# Altium schematic symbol library IC.SchLib: 53 symbols
Pins are listed as number, name and electrical type; pins without a type are passive.

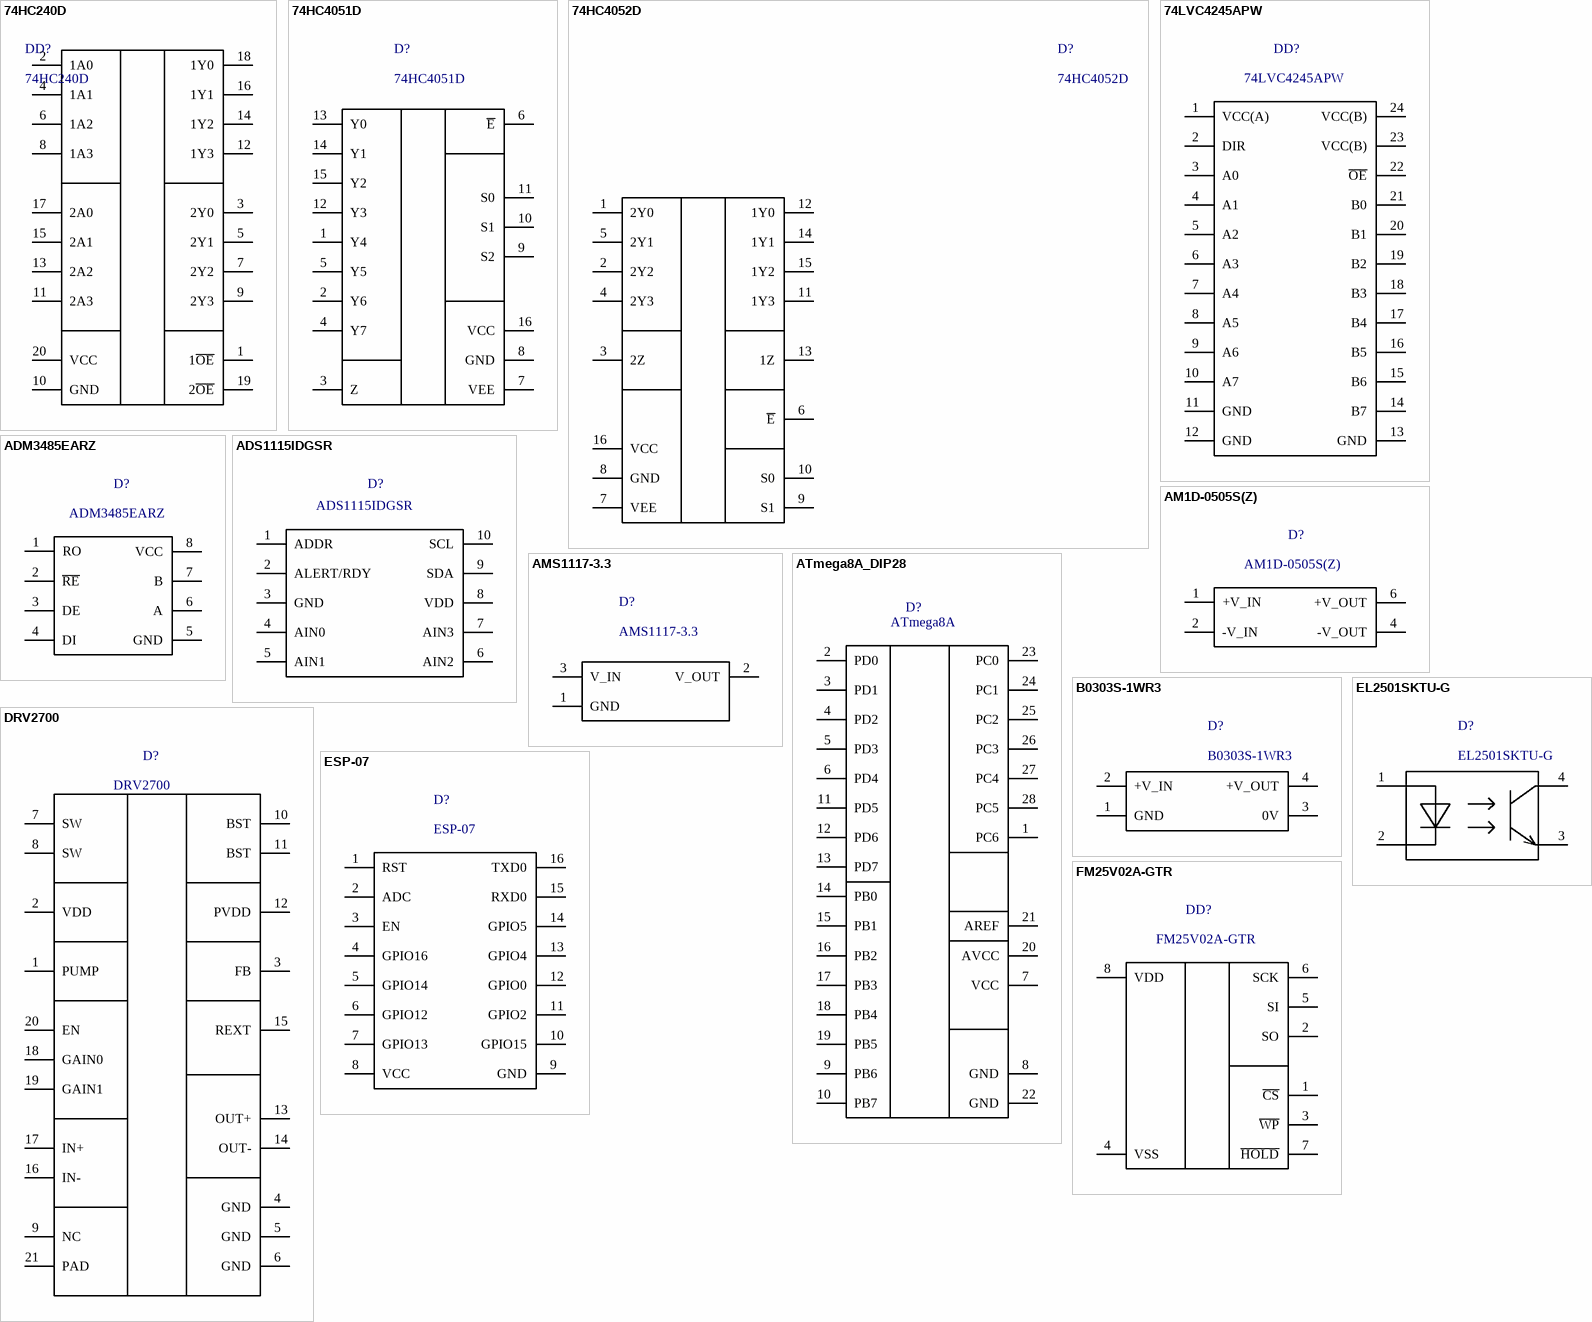
[diagram p0: symbols 74HC240D to FM25V02A-GTR]

## 74HC240D
designator DD?
https://www.chipdip.ru/product/74hc240d
footprint SOIC127P1030X250-20N
pins: 1 1~{OE}, 2 1A0, 3 2Y0, 4 1A1, 5 2Y1, 6 1A2, 7 2Y2, 8 1A3, 9 2Y3, 10 GND, 11 2A3, 12 1Y3, 13 2A2, 14 1Y2, 15 2A1, 16 1Y1, 17 2A0, 18 1Y0, 19 2~{OE}, 20 VCC

## 74HC4051D
designator D?
https://www.chipdip.ru/product/74hc4051d
footprint SO-16 (SOIC, 16-Leads, Body 9,90x3,90mm, Pitch 1,27mm, IPC Medium Density)
pins: 1 Y4, 2 Y6, 3 Z, 4 Y7, 5 Y5, 6 ~{E}, 7 VEE, 8 GND, 9 S2, 10 S1, 11 S0, 12 Y3, 13 Y0, 14 Y1, 15 Y2, 16 VCC

## 74HC4052D
designator D?
https://www.chipdip.ru/product/74hc4052d; spec: 74HC4052D,653, Двоичный четырехканальный мультиплексор, [SO-16]
footprint SO-16 (SOIC, 16-Leads, Body 9,90x3,90mm, Pitch 1,27mm, IPC Medium Density)
pins: 1 2Y0, 2 2Y2, 3 2Z, 4 2Y3, 5 2Y1, 6 ~{E}, 7 VEE, 8 GND, 9 S1, 10 S0, 11 1Y3, 12 1Y0, 13 1Z, 14 1Y1, 15 1Y2, 16 VCC

## 74LVC4245APW
designator DD?
footprint SOP65P640X110-24N
pins: 1 VCC(A), 2 DIR, 3 A0, 4 A1, 5 A2, 6 A3, 7 A4, 8 A5, 9 A6, 10 A7, 11 GND, 12 GND, 13 GND, 14 B7, 15 B6, 16 B5, 17 B4, 18 B3, 19 B2, 20 B1, 21 B0, 22 ~{OE}, 23 VCC(B), 24 VCC(B)

## ADM3485EARZ
designator D?
https://www.chipdip.ru/product/adm3485earz
footprint SO-8
pins: 1 RO, 2 ~{RE}, 3 DE, 4 DI, 5 GND, 6 A, 7 B, 8 VCC

## ADS1115IDGSR
designator D?
https://www.chipdip.ru/product/ads1115idgst; spec: ADS1115IDGSR, 16-бит АЦП, I2C, с встроенными MUX, PGA, Reference, Oscillator и Programmable Comparator [VSSOP-10]
footprint SOP50P490X110-10N
pins: 1 ADDR, 2 ALERT/RDY, 3 GND, 4 AIN0, 5 AIN1, 6 AIN2, 7 AIN3, 8 VDD, 9 SDA, 10 SCL

## AM1D-0505S(Z)
designator D?
https://www.chipdip.ru/product/am1d-0505sz
footprint AM1D0505SZ
pins: 1 +V_IN, 2 -V_IN, 4 -V_OUT, 6 +V_OUT

## AMS1117-3.3
designator D?
https://www.chipdip.ru/product/ams1117-3.3-umw; spec: AMS1117-3.3, Линейный регулятор с малым падением напряжения, 1А, 3.3В [SOT-223]
footprint SOT223
pins: 1 GND, 2 V_OUT, 3 V_IN

## ATmega8A_DIP28
designator D?, comment ATmega8A
https://www.chipdip.ru/product/atmega8a-pu; spec: ATmega8A-PU, Микроконтроллер 8-Бит, AVR, 16МГц, 8КБ Flash [DIP-28]
footprint DIP794W53P254L3467H457Q28N
pins: 1 PC6, 2 PD0, 3 PD1, 4 PD2, 5 PD3, 6 PD4, 7 VCC, 8 GND, 9 PB6, 10 PB7, 11 PD5, 12 PD6, 13 PD7, 14 PB0, 15 PB1, 16 PB2, 17 PB3, 18 PB4, 19 PB5, 20 AVCC, 21 AREF, 22 GND, 23 PC0, 24 PC1, 25 PC2, 26 PC3, 27 PC4, 28 PC5

## B0303S-1WR3
designator D?
https://www.chipdip.ru/product0/8011142707
footprint B0303S-1WR3
pins: 1 GND, 2 +V_IN, 3 0V, 4 +V_OUT

## DRV2700
designator D?
DRV2700 Микросхема высоковольтный драйвер, операционный усилитель [QFN20]; link: https://www.chipdip.ru/product0/8004998179
footprint QFN50P400X400X100-21N-D
pins: 1 PUMP, 2 VDD, 3 FB, 4 GND, 5 GND, 6 GND, 7 SW, 8 SW, 9 NC, 10 BST, 11 BST, 12 PVDD, 13 OUT+, 14 OUT-, 15 REXT, 16 IN-, 17 IN+, 18 GAIN0, 19 GAIN1, 20 EN, 21 PAD

## EL2501SKTU-G
designator D?
https://www.chipdip.ru/product0/8010391243
footprint SOP4 (SOP, 4-Leads, Body 4,00x3,79mm, Pitch 2,54mm, IPC High Density)
pins: 1, 2, 3, 4

## ESP-07
designator D?
https://www.chipdip.ru/product/esp-07?utm_source=direct&utm_medium=cpc&position_type=premium%7Ck50id%7C010000002651869_2651869%7Ccid%7C60323483%7Cgid%7C4964185843%7Caid%7C12395873219%7Csrc%7Csearch_none&utm_campaign=Y_dinamicheskaya&utm_content=text9_ya&utm_term=&yclid=16044866700604080127; spec: ESP-07, Встраиваемый Wi-Fi модуль на базе чипа ESP8266
footprint ESP8266ESP07
pins: 1 RST, 2 ADC, 3 EN, 4 GPIO16, 5 GPIO14, 6 GPIO12, 7 GPIO13, 8 VCC, 9 GND, 10 GPIO15, 11 GPIO2, 12 GPIO0, 13 GPIO4, 14 GPIO5, 15 RXD0, 16 TXD0

## FM25V02A-GTR
designator DD?
https://www.platan.ru/cgi-bin/qwery.pl/id=2015799195; Type: Микросхема памяти F-RAM 256 kb; Package: [SO-8]
footprint SOIC127P602X173-8N
pins: 1 ~{CS}, 2 SO, 3 ~{WP}, 4 VSS, 5 SI, 6 SCK, 7 ~{HOLD}, 8 VDD

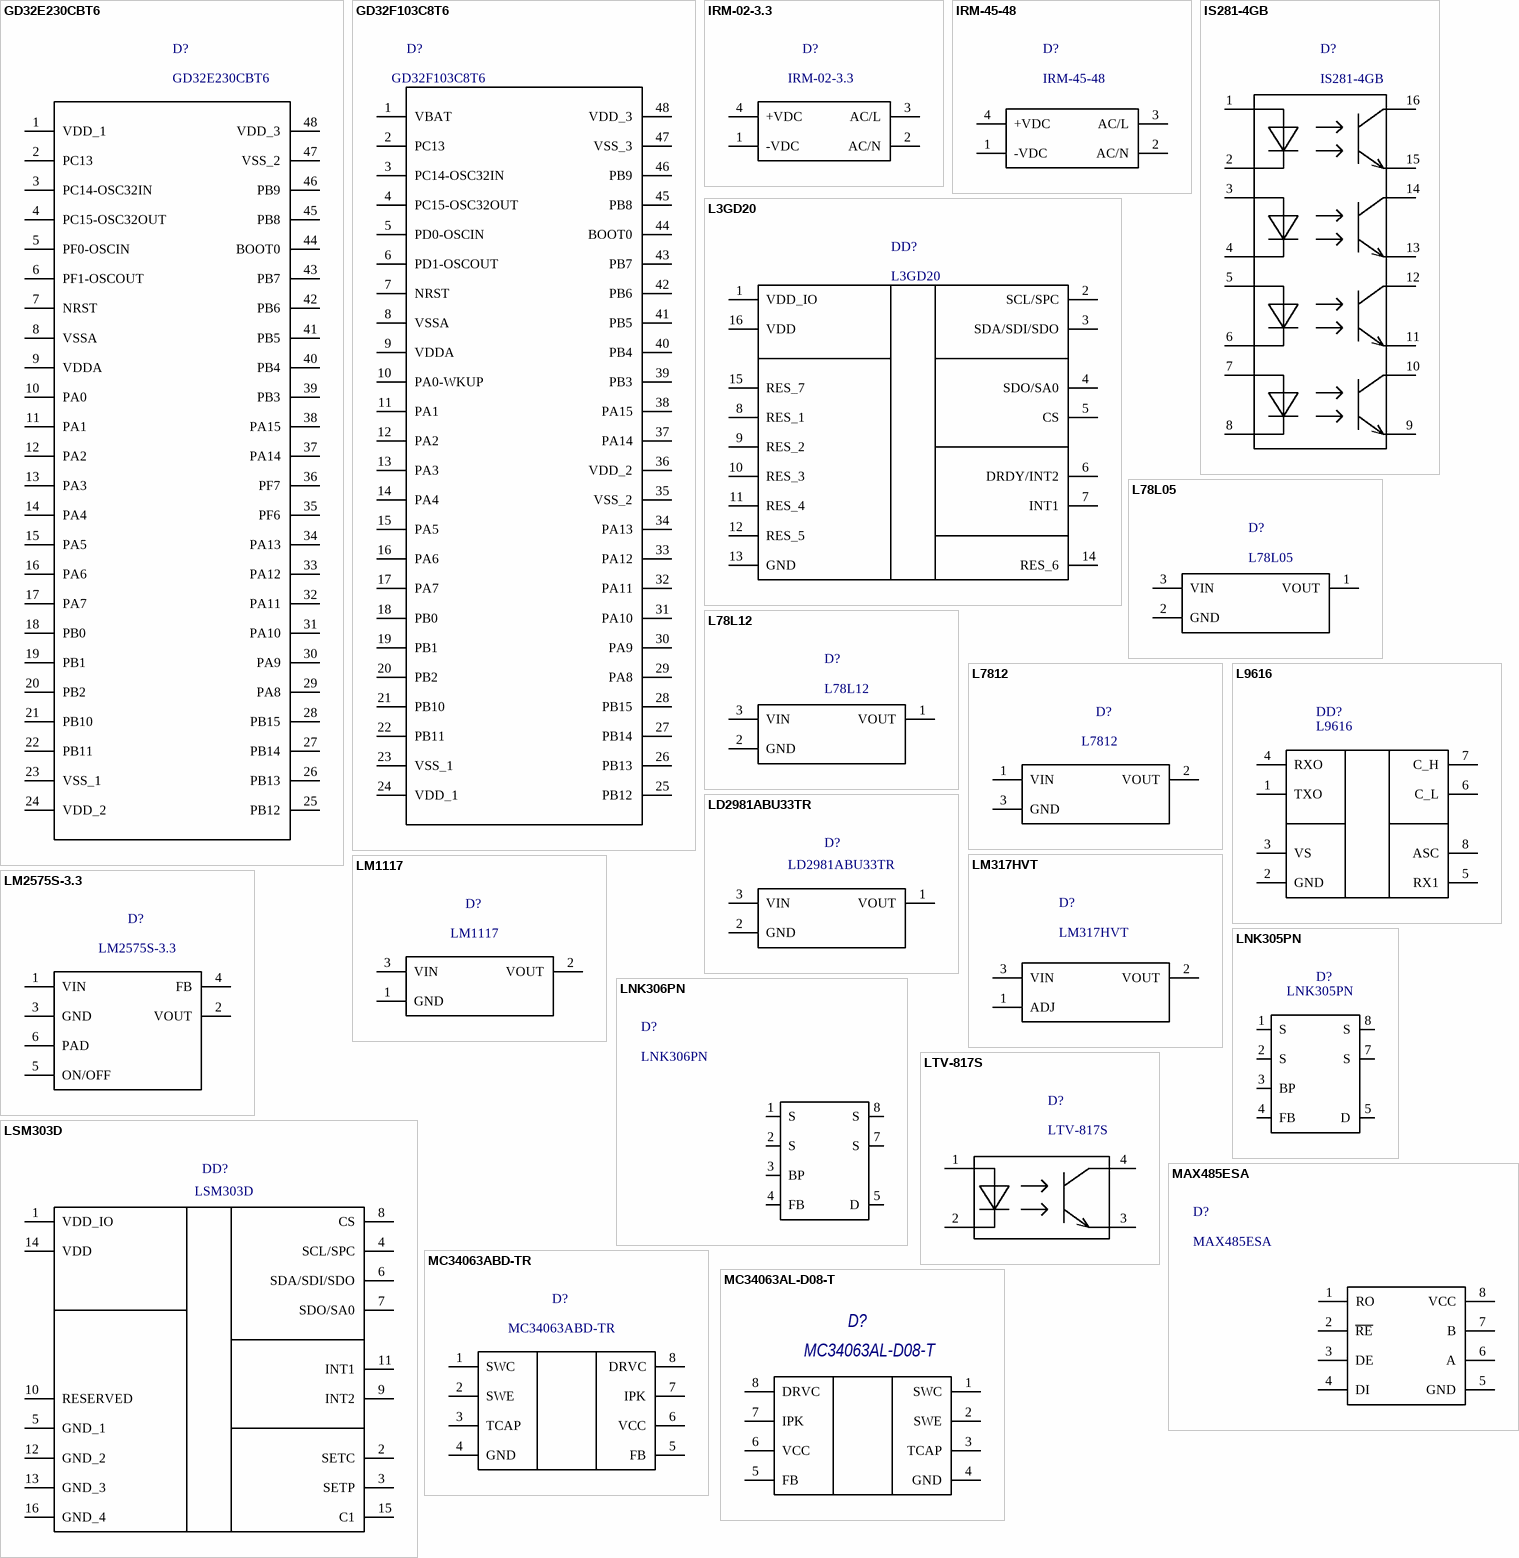
[diagram p1: symbols GD32E230CBT6 to MC34063AL-D08-T]

## GD32E230CBT6
designator D?
https://www.chipdip.ru/product/gd32e230c8t6; Type: микроконтроллер; Package: [LQFP-48]
footprint QFP50P900X900X160-48N
pins: 1 VDD_1, 2 PC13, 3 PC14-OSC32IN, 4 PC15-OSC32OUT, 5 PF0-OSCIN, 6 PF1-OSCOUT, 7 NRST, 8 VSSA, 9 VDDA, 10 PA0, 11 PA1, 12 PA2, 13 PA3, 14 PA4, 15 PA5, 16 PA6, 17 PA7, 18 PB0, 19 PB1, 20 PB2, 21 PB10, 22 PB11, 23 VSS_1, 24 VDD_2, 25 PB12, 26 PB13, 27 PB14, 28 PB15, 29 PA8, 30 PA9, 31 PA10, 32 PA11, 33 PA12, 34 PA13, 35 PF6, 36 PF7, 37 PA14, 38 PA15, 39 PB3, 40 PB4, 41 PB5, 42 PB6, 43 PB7, 44 BOOT0, 45 PB8, 46 PB9, 47 VSS_2, 48 VDD_3

## GD32F103C8T6
designator D?
https://www.chipdip.ru/product/gd32f103c8t6-gigadevice
footprint QFP50P900X900X160-48N
pins: 1 VBAT, 2 PC13, 3 PC14-OSC32IN, 4 PC15-OSC32OUT, 5 PD0-OSCIN, 6 PD1-OSCOUT, 7 NRST, 8 VSSA, 9 VDDA, 10 PA0-WKUP, 11 PA1, 12 PA2, 13 PA3, 14 PA4, 15 PA5, 16 PA6, 17 PA7, 18 PB0, 19 PB1, 20 PB2, 21 PB10, 22 PB11, 23 VSS_1, 24 VDD_1, 25 PB12, 26 PB13, 27 PB14, 28 PB15, 29 PA8, 30 PA9, 31 PA10, 32 PA11, 33 PA12, 34 PA13, 35 VSS_2, 36 VDD_2, 37 PA14, 38 PA15, 39 PB3, 40 PB4, 41 PB5, 42 PB6, 43 PB7, 44 BOOT0, 45 PB8, 46 PB9, 47 VSS_3, 48 VDD_3

## IRM-02-3.3
designator D?
https://www.chipdip.ru/product/irm-02-3.3-mean-well; spec: RM-02-3.3, AC/DC преобразователь, 3.3В,0.6А,2Вт
footprint IRM-02
pins: 1 -VDC, 2 AC/N, 3 AC/L, 4 +VDC

## IRM-45-48
designator D?
IRM-45-48, AC/DC преобразователь; link: https://www.chipdip.ru/product0/8001536163
pins: 1 -VDC, 2 AC/N, 3 AC/L, 4 +VDC

## IS281-4GB
designator D?
https://www.chipdip.ru/product/is281-4gb
footprint SO-16 (SOIC, 16-Leads, Body 9,90x3,90mm, Pitch 1,27mm, IPC Medium Density)
pins: 1, 2, 3, 4, 5, 6, 7, 8, 9, 10, 11, 12, 13, 14, 15, 16

## L3GD20
designator DD?
https://3d-diy.ru/product/3-kh-osevoy-giroskop-l3gd20-gy-50; Type: Цифровой гироскоп; Package: [LGA-16]
footprint QFN65P400X400X100-16N
pins: 1 VDD_IO, 2 SCL/SPC, 3 SDA/SDI/SDO, 4 SDO/SA0, 5 CS, 6 DRDY/INT2, 7 INT1, 8 RES_1, 9 RES_2, 10 RES_3, 11 RES_4, 12 RES_5, 13 GND, 14 RES_6, 15 RES_7, 16 VDD

## L78L05
designator D?
https://www.chipdip.ru/product/l78l05abutr; spec: L78L05ABUTR, Cтабилизатор напряжения (+5В; 0.1А), 4%, (-40...+125C), [SOT-89]
footprint sot89 (SOT89, 3-Leads, Body 4,50x2,45mm, Pitch 1,50mm, Lead Span 4,1mm, IPC High Density)
pins: 1 VOUT, 2 GND, 3 VIN

## L78L12
designator D?
https://www.chipdip.ru/product/l78l12abutr-2r; spec: L78L12ABUTR, Стабилизатор напряжения +12В 0.1А [SOT-89]
footprint sot89 (SOT89, 3-Leads, Body 4,50x2,45mm, Pitch 1,50mm, Lead Span 4,1mm, IPC High Density)
pins: 1 VOUT, 2 GND, 3 VIN

## L7812
designator D?
L7812ABD2T-TR, Стабилизатор напряжения +12В 1.5А 2%, (-40...+125C), [D2-PAK]; link: https://www.chipdip.ru/product/l7812abd2t
footprint D2PACK
pins: 1 VIN, 2 VOUT, 3 GND

## L9616
designator DD?
https://www.chipdip.ru/product/l9616-stm
footprint SOIC127P600X175-8N
pins: 1 TXO, 2 GND, 3 VS, 4 RXO, 5 RX1, 6 C_L, 7 C_H, 8 ASC

## LD2981ABU33TR
designator D?
https://www.chipdip.ru/product/ld2981abu33tr
footprint SOT89 (SOT89, 3-Leads, Body 4,50x2,45mm, Pitch 1,50mm, Lead Span 4,1mm, IPC High Density)
pins: 1 VOUT, 2 GND, 3 VIN

## LM317HVT
designator D?
LM317HVT/NOPB, 3-х выводной регулятор напряжения с установкой выходного напряжения 1.25В…57В, 1.5А, [TO-220]; link: https://www.chipdip.ru/product/lm317hvt-nopb
pins: 1 ADJ, 2 VOUT, 3 VIN

## LM1117
designator D?
https://www.chipdip.ru/product/lm1117gs-5.0; spec: LM1117GS-5.0, Линейный регулятор с низким падением напряжения, +5 В, 1А [SOT-223] (=LM1117IMPX-5.0)
footprint SOT223
pins: 1 GND, 2 VOUT, 3 VIN

## LM2575S-3.3
designator D?
https://www.chipdip.ru/product/lm2575s-3.3-umw
footprint TO-263-5
pins: 1 VIN, 2 VOUT, 3 GND, 4 FB, 5 ON/OFF, 6 PAD

## LNK305PN
designator D?
https://www.chipdip.ru/product/lnk305pn; spec: LNK305PN, Импульсный регулятор напряжения [DIP-8]
footprint DIP-8 (NO 6)
pins: 1 S, 2 S, 3 BP, 4 FB, 5 D, 7 S, 8 S

## LNK306PN
designator D?
spec: LNK306PN, ШИМ-контроллер Off-line switcher, 12мВт [DIP-8]
footprint DIP-8 (NO 6)
pins: 1 S, 2 S, 3 BP, 4 FB, 5 D, 7 S, 8 S

## LSM303D
designator DD?
footprint PQFN50P300X300X100-16N
pins: 1 VDD_IO (power), 2 SETC, 3 SETP, 4 SCL/SPC, 5 GND_1 (power), 6 SDA/SDI/SDO, 7 SDO/SA0, 8 CS, 9 INT2, 10 RESERVED, 11 INT1, 12 GND_2 (power), 13 GND_3 (power), 14 VDD (power), 15 C1, 16 GND_4 (power)

## LTV-817S
designator D?
LTV-817S-TA1-C, Оптопара транзисторная, (=PC817), [SMD-4]; link: https://www.chipdip.ru/product/pc817-ltv817s
footprint SOP-4
pins: 1, 2, 3, 4

## MAX485ESA
designator D?
https://www.chipdip.ru/product/max485esa-umw
footprint SOIC127P600X175-8N
pins: 1 RO, 2 ~{RE}, 3 DE, 4 DI, 5 GND, 6 A, 7 B, 8 VCC

## MC34063ABD-TR
designator D?
https://www.chipdip.ru/product/mc34063abd-tr
footprint SO-8
pins: 1 SWC, 2 SWE, 3 TCAP, 4 GND, 5 FB, 6 VCC, 7 IPK, 8 DRVC

## MC34063AL-D08-T
designator D?
https://www.chipdip.ru/product0/8407325065
footprint DIP794W56P254L959H533Q8N
pins: 1 SWC, 2 SWE, 3 TCAP, 4 GND, 5 FB, 6 VCC, 7 IPK, 8 DRVC

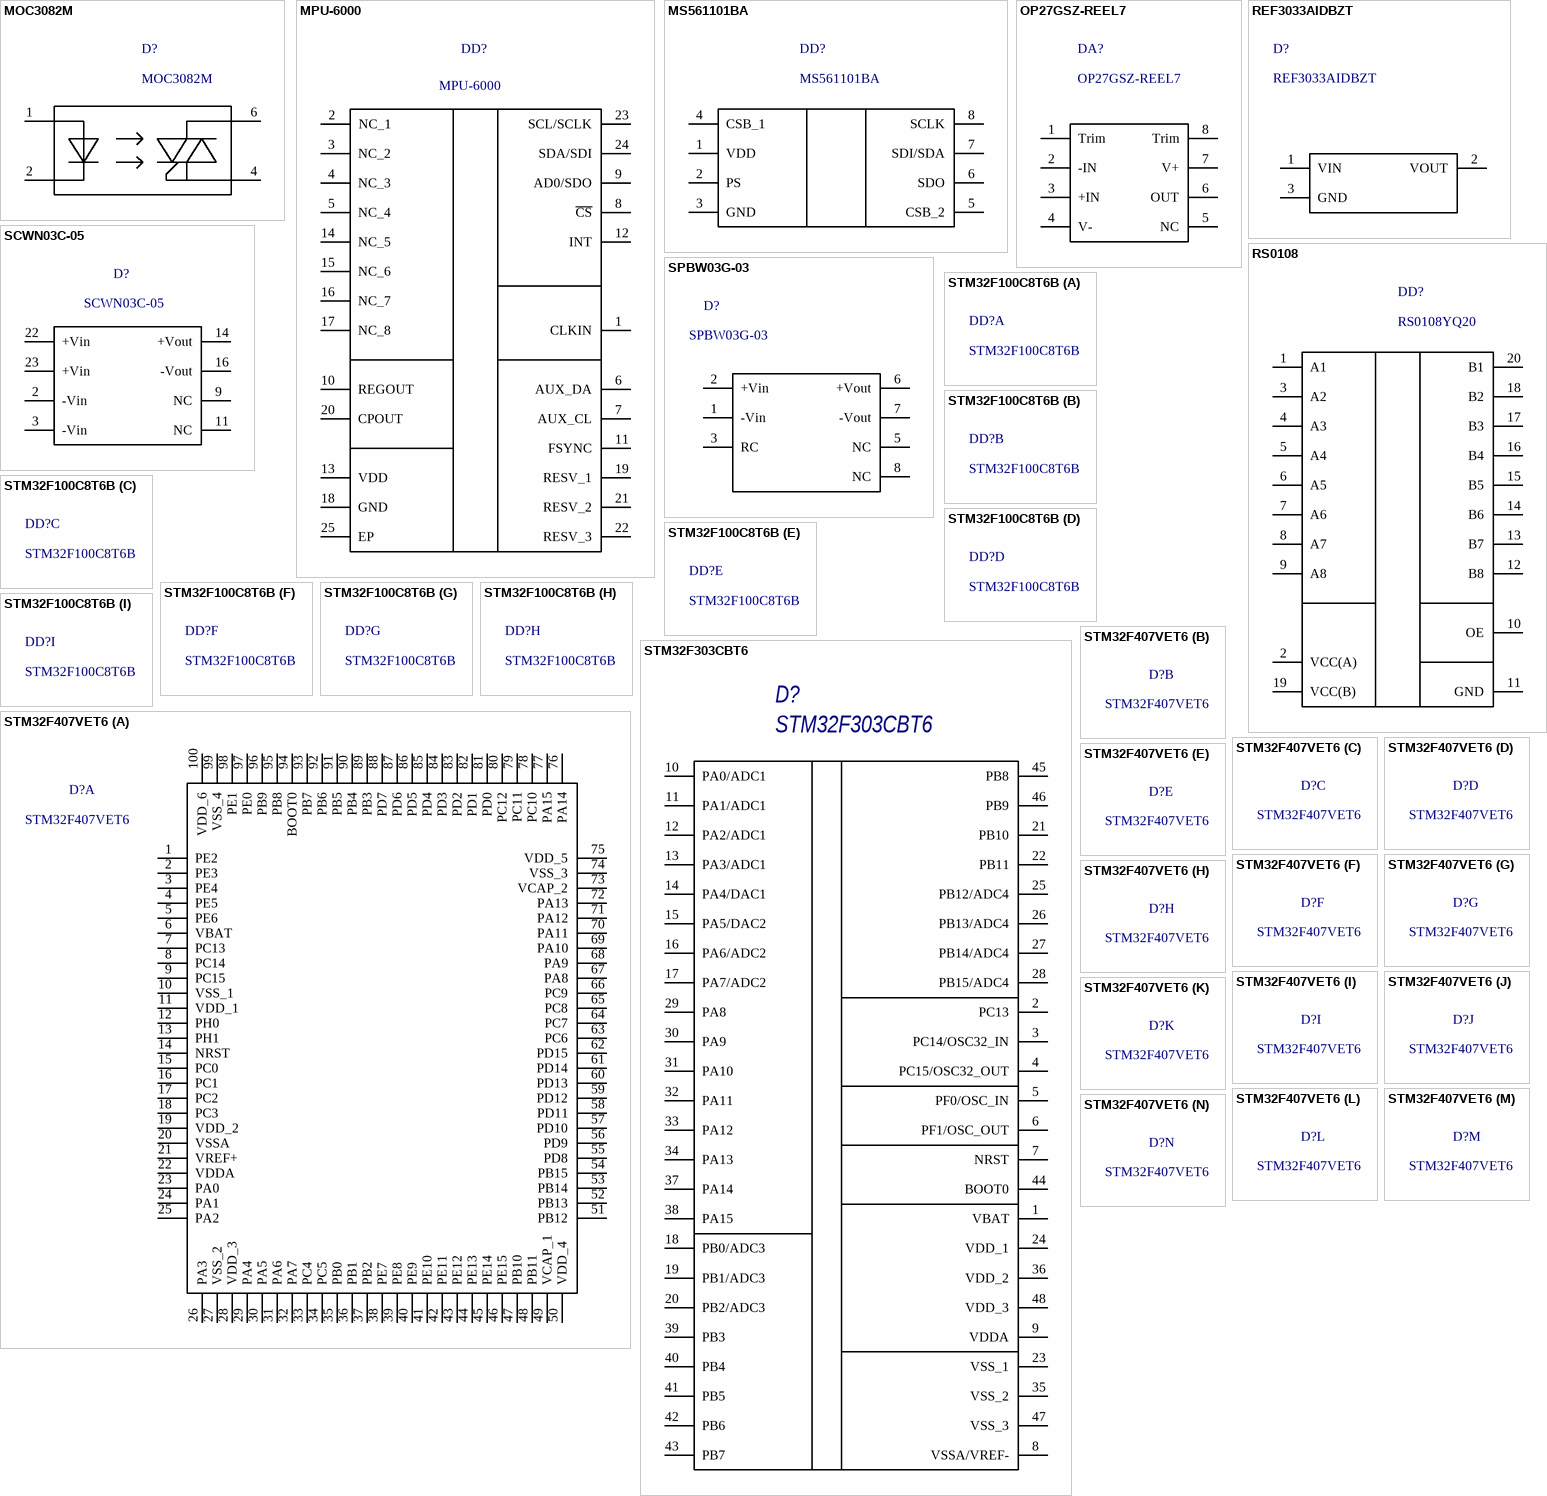
[diagram p2: symbols MOC3082M to STM32F407VET6]

## MOC3082M
designator D?
https://www.chipdip.ru/product0/8010390693
footprint DIP6
pins: 1, 2, 4, 6

## MPU-6000
designator DD?
footprint QFN50P400X400X95-25N
pins: 1 CLKIN, 2 NC_1, 3 NC_2, 4 NC_3, 5 NC_4, 6 AUX_DA, 7 AUX_CL, 8 ~{CS}, 9 AD0/SDO, 10 REGOUT, 11 FSYNC, 12 INT, 13 VDD, 14 NC_5, 15 NC_6, 16 NC_7, 17 NC_8, 18 GND, 19 RESV_1, 20 CPOUT, 21 RESV_2, 22 RESV_3, 23 SCL/SCLK, 24 SDA/SDI, 25 EP

## MS561101BA
designator DD?
footprint MS561101BA03-50
pins: 1 VDD, 2 PS, 3 GND, 4 CSB_1, 5 CSB_2, 6 SDO, 7 SDI/SDA, 8 SCLK

## OP27GSZ-REEL7
designator DA?
OP27GSZ-REEL7, Малошумящий прецизионный операционный усилитель, 8МГц [SO-8]; link: https://www.chipdip.ru/product/op27gs
footprint SO-8
pins: 1 Trim, 2 -IN, 3 +IN, 4 V-, 5 NC, 6 OUT, 7 V+, 8 Trim

## REF3033AIDBZT
designator D?
REF3033AIDBZT, Источник опорного напряжения, 3.3V LP [SOT-23-3]; link: https://www.chipdip.ru/product/ref3033aidbzt-3
footprint SOT23-3 (SOT23, 3 pin)
pins: 1 VIN, 2 VOUT, 3 GND

## RS0108
designator DD?, comment RS0108YQ20
https://www.chipdip.ru/product0/8011065167; Type: Преобразователь логических уровней; Package: [TSSOP-20]
footprint TSSOP20 (TSSOP, 20-Leads, Body 6,50x4,40mm, Pitch 0,65mm, IPC Medium Density)
pins: 1 A1, 2 VCC(A), 3 A2, 4 A3, 5 A4, 6 A5, 7 A6, 8 A7, 9 A8, 10 OE, 11 GND, 12 B8, 13 B7, 14 B6, 15 B5, 16 B4, 17 B3, 18 B2, 19 VCC(B), 20 B1

## SCWN03C-05
designator D?
SCWN03C-05, DC/DC преобразователь; link: https://www.chipdip.ru/product0/8021354196
pins: 2 -Vin, 3 -Vin, 9 NC, 11 NC, 14 +Vout, 16 -Vout, 22 +Vin, 23 +Vin

## SPBW03G-03
designator D?
SPBW03G-03, DC/DC преобразователь; link: https://www.chipdip.ru/product0/8001615219
pins: 1 -Vin, 2 +Vin, 3 RC, 5 NC, 6 +Vout, 7 -Vout, 8 NC

## STM32F100C8T6B
designator DD?
footprint QFP50P900X900X160-48N
1 alternate drawing of the same symbol

## STM32F303CBT6
designator D?
STM32F303CBT6, Микроконтроллер ARM Cortex-M4, 32-бит, 72МГц, 128K Flash, 32К RAM, 37 I/O, USB [LQFP-48]; ComponentLink1Description: link; ComponentLink1URL: https://www.chipdip.ru/product/stm32f303cbt6
footprint LQFP48
pins: 1 VBAT, 2 PC13, 3 PC14/OSC32_IN, 4 PC15/OSC32_OUT, 5 PF0/OSC_IN, 6 PF1/OSC_OUT, 7 NRST, 8 VSSA/VREF-, 9 VDDA, 10 PA0/ADC1, 11 PA1/ADC1, 12 PA2/ADC1, 13 PA3/ADC1, 14 PA4/DAC1, 15 PA5/DAC2, 16 PA6/ADC2, 17 PA7/ADC2, 18 PB0/ADC3, 19 PB1/ADC3, 20 PB2/ADC3, 21 PB10, 22 PB11, 23 VSS_1, 24 VDD_1, 25 PB12/ADC4, 26 PB13/ADC4, 27 PB14/ADC4, 28 PB15/ADC4, 29 PA8, 30 PA9, 31 PA10, 32 PA11, 33 PA12, 34 PA13, 35 VSS_2, 36 VDD_2, 37 PA14, 38 PA15, 39 PB3, 40 PB4, 41 PB5, 42 PB6, 43 PB7, 44 BOOT0, 45 PB8, 46 PB9, 47 VSS_3, 48 VDD_3

## STM32F407VET6
designator D?
Type: *; Package: *
footprint QFP50P1600X1600X160-100N
part A pins: 1 PE2, 2 PE3, 3 PE4, 4 PE5, 5 PE6, 6 VBAT, 7 PC13, 8 PC14, 9 PC15, 10 VSS_1, 11 VDD_1, 12 PH0, 13 PH1, 14 NRST, 15 PC0, 16 PC1, 17 PC2, 18 PC3, 19 VDD_2, 20 VSSA, 21 VREF+, 22 VDDA, 23 PA0, 24 PA1, 25 PA2, 26 PA3, 27 VSS_2, 28 VDD_3, 29 PA4, 30 PA5, 31 PA6, 32 PA7, 33 PC4, 34 PC5, 35 PB0, 36 PB1, 37 PB2, 38 PE7, 39 PE8, 40 PE9, 41 PE10, 42 PE11, 43 PE12, 44 PE13, 45 PE14, 46 PE15, 47 PB10, 48 PB11, 49 VCAP_1, 50 VDD_4, 51 PB12, 52 PB13, 53 PB14, 54 PB15, 55 PD8, 56 PD9, 57 PD10, 58 PD11, 59 PD12, 60 PD13, 61 PD14, 62 PD15, 63 PC6, 64 PC7, 65 PC8, 66 PC9, 67 PA8, 68 PA9, 69 PA10, 70 PA11, 71 PA12, 72 PA13, 73 VCAP_2, 74 VSS_3, 75 VDD_5, 76 PA14, 77 PA15, 78 PC10, 79 PC11, 80 PC12, 81 PD0, 82 PD1, 83 PD2, 84 PD3, 85 PD4, 86 PD5, 87 PD6, 88 PD7, 89 PB3, 90 PB4, 91 PB5, 92 PB6, 93 PB7, 94 BOOT0, 95 PB8, 96 PB9, 97 PE0, 98 PE1, 99 VSS_4, 100 VDD_6
1 alternate drawing of the same symbol

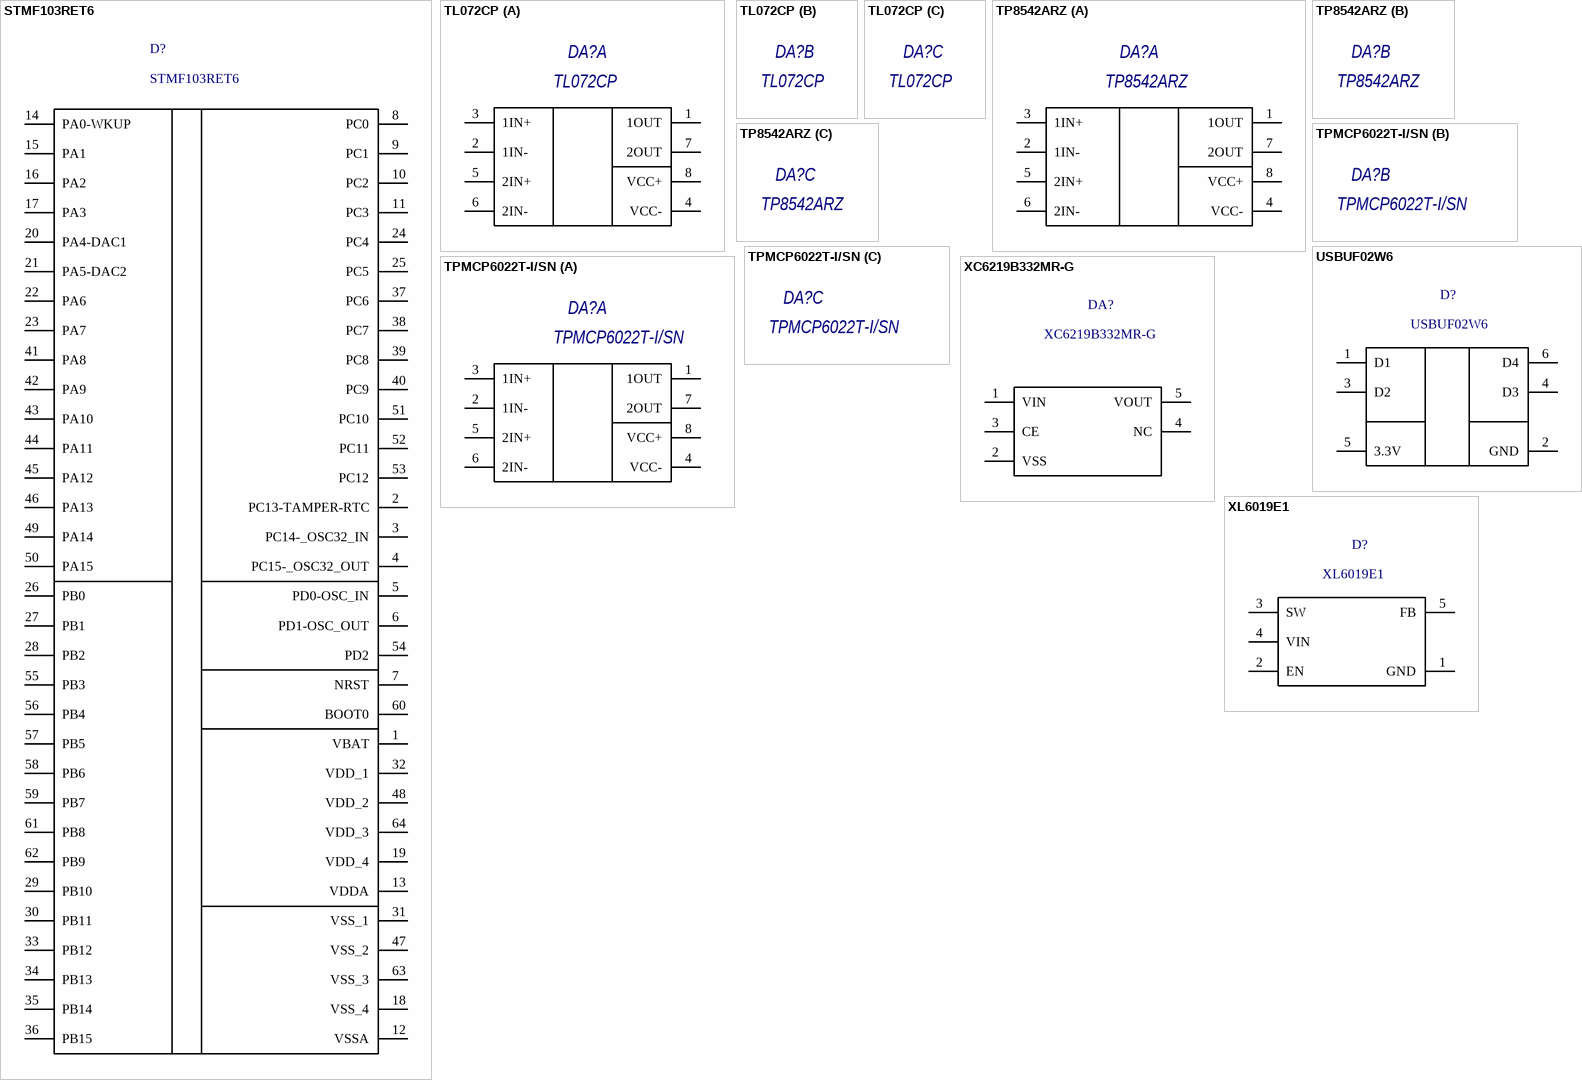
[diagram p3: symbols STMF103RET6 to XL6019E1]

## STMF103RET6
designator D?
STM32F103RET6, Микроконтроллер ARM Cortex-M3, 32-бит, 72МГц, 512K Flash, 64К RAM, 51 I/O, USB [LQFP-64]; link: https://www.chipdip.ru/product/stm32f103ret6-3
footprint QFP64_2
pins: 1 VBAT, 2 PC13-TAMPER-RTC, 3 PC14-_OSC32_IN, 4 PC15-_OSC32_OUT, 5 PD0-OSC_IN, 6 PD1-OSC_OUT, 7 NRST, 8 PC0, 9 PC1, 10 PC2, 11 PC3, 12 VSSA, 13 VDDA, 14 PA0-WKUP, 15 PA1, 16 PA2, 17 PA3, 18 VSS_4, 19 VDD_4, 20 PA4-DAC1, 21 PA5-DAC2, 22 PA6, 23 PA7, 24 PC4, 25 PC5, 26 PB0, 27 PB1, 28 PB2, 29 PB10, 30 PB11, 31 VSS_1, 32 VDD_1, 33 PB12, 34 PB13, 35 PB14, 36 PB15, 37 PC6, 38 PC7, 39 PC8, 40 PC9, 41 PA8, 42 PA9, 43 PA10, 44 PA11, 45 PA12, 46 PA13, 47 VSS_2, 48 VDD_2, 49 PA14, 50 PA15, 51 PC10, 52 PC11, 53 PC12, 54 PD2, 55 PB3, 56 PB4, 57 PB5, 58 PB6, 59 PB7, 60 BOOT0, 61 PB8, 62 PB9, 63 VSS_3, 64 VDD_3

## TL072CP
designator DA?
footprint DIP794W56P254L959H533Q8N
part A pins: 1 1OUT, 2 1IN-, 3 1IN+, 4 VCC-, 5 2IN+, 6 2IN-, 7 2OUT, 8 VCC+
1 alternate drawing of the same symbol

## TP8542ARZ
designator DA?
TP8542ARZ, Операционный усилитель, 1МГц,, Rail-to-Rail [SOP-8]; link: https://www.chipdip.ru/product/tp8542arz
footprint SOIC127P600X175-8N
part A pins: 1 1OUT, 2 1IN-, 3 1IN+, 4 VCC-, 5 2IN+, 6 2IN-, 7 2OUT, 8 VCC+
1 alternate drawing of the same symbol

## TPMCP6022T-I/SN
designator DA?
https://www.chipdip.ru/product/tpmcp6022t-i-sn
footprint SOIC127P600X175-8N
part A pins: 1 1OUT, 2 1IN-, 3 1IN+, 4 VCC-, 5 2IN+, 6 2IN-, 7 2OUT, 8 VCC+
1 alternate drawing of the same symbol

## USBUF02W6
designator D?
USBUF02W6, Защитная ИС EMI FILTER/LINE TERM, [SOT-323-6]; link: https://www.chipdip.ru/product/usbuf02w6
footprint SOT65P210X110-6N
pins: 1 D1, 2 GND (power), 3 D2, 4 D3, 5 3.3V, 6 D4

## XC6219B332MR-G
designator DA?
footprint SOT95P280X130-5N
pins: 1 VIN, 2 VSS, 3 CE, 4 NC, 5 VOUT

## XL6019E1
designator D?
https://www.chipdip.ru/product0/8013332629; spec: DC/DC преобразователь повышающий XL6019E1
footprint TO263-5L (D2-PAK, 6-Pads, Body 7,35x8,36mm (max), IPC Medium Density)
pins: 1 GND, 2 EN, 3 SW, 4 VIN, 5 FB